# EAGLE library part D-SUB37- (library con-thomas-betts)
D-Subminiatur Connector Source: Electronioc Interconnects European Edition 1998
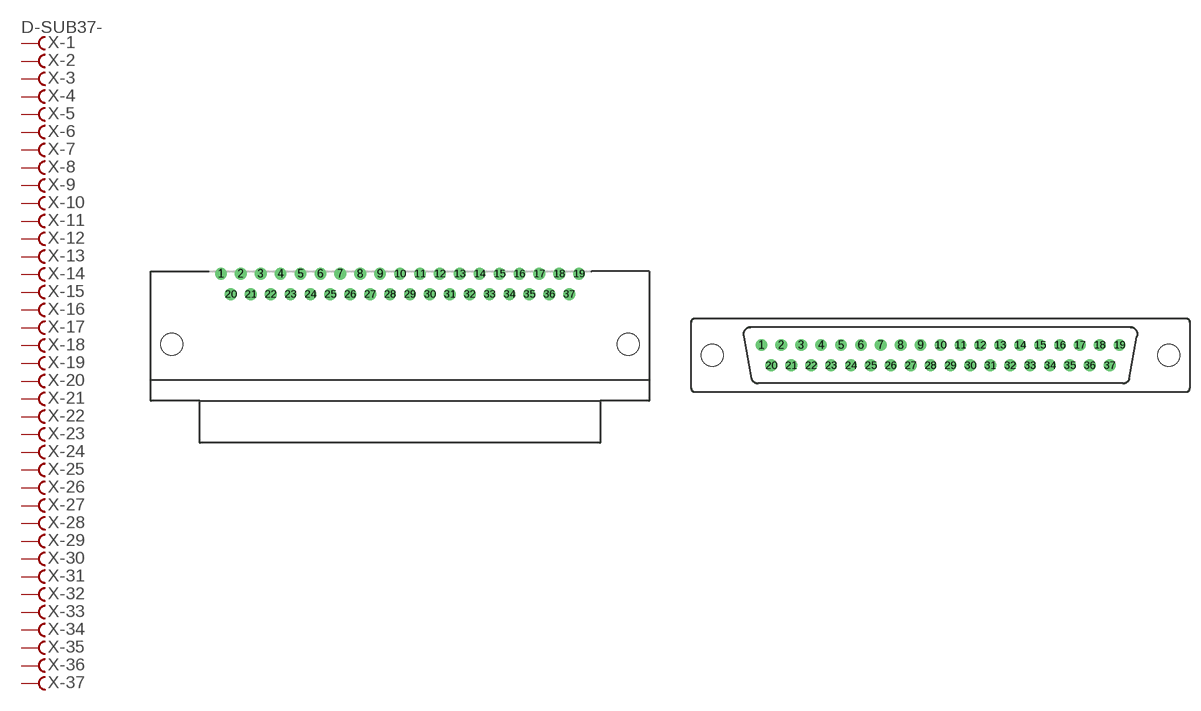
[diagram p22: symbol with the pads of H2M37RA; footprints H2M37RA, H2M37ST]

Designator prefix X; gates -1=FV -2=F -3=F -4=F -5=F -6=F -7=F -8=F -9=F -10=F -11=F -12=F -13=F -14=F -15=F -16=F -17=F -18=F -19=F -20=F -21=F -22=F -23=F -24=F -25=F -26=F -27=F -28=F -29=F -30=F -31=F -32=F -33=F -34=F -35=F -36=F -37=F

## D-SUB37-H2M37RA (OC_FARNELL: unknown; OC_NEWARK: unknown)  [H2M37RA]
1  -1:F  pas
2  -2:F  pas
3  -3:F  pas
4  -4:F  pas
5  -5:F  pas
6  -6:F  pas
7  -7:F  pas
8  -8:F  pas
9  -9:F  pas
10  -10:F  pas
11  -11:F  pas
12  -12:F  pas
13  -13:F  pas
14  -14:F  pas
15  -15:F  pas
16  -16:F  pas
17  -17:F  pas
18  -18:F  pas
19  -19:F  pas
20  -20:F  pas
21  -21:F  pas
22  -22:F  pas
23  -23:F  pas
24  -24:F  pas
25  -25:F  pas
26  -26:F  pas
27  -27:F  pas
28  -28:F  pas
29  -29:F  pas
30  -30:F  pas
31  -31:F  pas
32  -32:F  pas
33  -33:F  pas
34  -34:F  pas
35  -35:F  pas
36  -36:F  pas
37  -37:F  pas

## D-SUB37-H2M37ST (OC_FARNELL: unknown; OC_NEWARK: unknown)  [H2M37ST]
Pads as for H2M37RA

## D-SUB37-H2R37RA (OC_FARNELL: unknown; OC_NEWARK: unknown)  [H2R37RA]
Pads as for H2M37RA

## D-SUB37-H3R37ST (OC_FARNELL: unknown; OC_NEWARK: unknown)  [H2R37ST]
Pads as for H2M37RA

## D-SUB37-H3R37RA (OC_FARNELL: unknown; OC_NEWARK: unknown)  [H3R37RA]
Pads as for H2M37RA

## D-SUB37-H5M37RA (MPN: H5M37RA29CS; OC_FARNELL: unknown; OC_NEWARK: 93F8325)  [H5M37RA]
Pads as for H2M37RA

## D-SUB37-H5R37RA (OC_FARNELL: unknown; OC_NEWARK: unknown)  [H5R37RA]
Pads as for H2M37RA

## Footprint H2M37RA (pad centres in mm)
THOMAS&BETTS H2M37RA29A
drill 1.092 round: 1 -24.917,7.925; 2 -22.149,7.925; 3 -19.38,7.925; 4 -16.612,7.925; 5 -13.843,7.925; 6 -11.074,7.925; 7 -8.306,7.925; 8 -5.537,7.925; 9 -2.769,7.925; 10 0,7.925; 11 2.769,7.925; 12 5.537,7.925; 13 8.306,7.925; 14 11.074,7.925; 15 13.843,7.925; 16 16.612,7.925; 17 19.38,7.925; 18 22.149,7.925; 19 24.917,7.925; 20 -23.533,5.08; 21 -20.765,5.08; 22 -17.996,5.08; 23 -15.227,5.08; 24 -12.459,5.08; 25 -9.69,5.08; 26 -6.921,5.08; 27 -4.153,5.08; 28 -1.384,5.08; 29 1.384,5.08; 30 4.153,5.08; 31 6.921,5.08; 32 9.69,5.08; 33 12.459,5.08; 34 15.227,5.08; 35 17.996,5.08; 36 20.765,5.08; 37 23.533,5.08
hole 3.048 at -31.75,-1.905
hole 3.048 at 31.75,-1.905

## Footprint H2M37ST (pad centres in mm)
THOMAS&BETTS H2M37ST29x
drill 1.092 round: 1 -24.917,1.422; 2 -22.149,1.422; 3 -19.38,1.422; 4 -16.612,1.422; 5 -13.843,1.422; 6 -11.074,1.422; 7 -8.306,1.422; 8 -5.537,1.422; 9 -2.769,1.422; 10 0,1.422; 11 2.769,1.422; 12 5.537,1.422; 13 8.306,1.422; 14 11.074,1.422; 15 13.843,1.422; 16 16.612,1.422; 17 19.38,1.422; 18 22.149,1.422; 19 24.917,1.422; 20 -23.533,-1.422; 21 -20.765,-1.422; 22 -17.996,-1.422; 23 -15.227,-1.422; 24 -12.459,-1.422; 25 -9.69,-1.422; 26 -6.921,-1.422; 27 -4.153,-1.422; 28 -1.384,-1.422; 29 1.384,-1.422; 30 4.153,-1.422; 31 6.921,-1.422; 32 9.69,-1.422; 33 12.459,-1.422; 34 15.227,-1.422; 35 17.996,-1.422; 36 20.765,-1.422; 37 23.533,-1.422
hole 3.048 at -31.75,0
hole 3.048 at 31.75,0

## Footprint H2R37RA (pad centres in mm)
THOMAS&BETTS H2R37RA29A
drill 1.092 round: 1 24.917,7.925; 2 22.149,7.925; 3 19.38,7.925; 4 16.612,7.925; 5 13.843,7.925; 6 11.074,7.925; 7 8.306,7.925; 8 5.537,7.925; 9 2.769,7.925; 10 0,7.925; 11 -2.769,7.925; 12 -5.537,7.925; 13 -8.306,7.925; 14 -11.074,7.925; 15 -13.843,7.925; 16 -16.612,7.925; 17 -19.38,7.925; 18 -22.149,7.925; 19 -24.917,7.925; 20 23.533,5.08; 21 20.765,5.08; 22 17.996,5.08; 23 15.227,5.08; 24 12.459,5.08; 25 9.69,5.08; 26 6.921,5.08; 27 4.153,5.08; 28 1.384,5.08; 29 -1.384,5.08; 30 -4.153,5.08; 31 -6.921,5.08; 32 -9.69,5.08; 33 -12.459,5.08; 34 -15.227,5.08; 35 -17.996,5.08; 36 -20.765,5.08; 37 -23.533,5.08
hole 3.048 at -31.75,-1.905
hole 3.048 at 31.75,-1.905

## Footprint H2R37ST (pad centres in mm)
THOMAS&BETTS H2R37ST29x
drill 1.092 round: 1 24.917,1.422; 2 22.149,1.422; 3 19.38,1.422; 4 16.612,1.422; 5 13.843,1.422; 6 11.074,1.422; 7 8.306,1.422; 8 5.537,1.422; 9 2.769,1.422; 10 0,1.422; 11 -2.769,1.422; 12 -5.537,1.422; 13 -8.306,1.422; 14 -11.074,1.422; 15 -13.843,1.422; 16 -16.612,1.422; 17 -19.38,1.422; 18 -22.149,1.422; 19 -24.917,1.422; 20 23.533,-1.422; 21 20.765,-1.422; 22 17.996,-1.422; 23 15.227,-1.422; 24 12.459,-1.422; 25 9.69,-1.422; 26 6.921,-1.422; 27 4.153,-1.422; 28 1.384,-1.422; 29 -1.384,-1.422; 30 -4.153,-1.422; 31 -6.921,-1.422; 32 -9.69,-1.422; 33 -12.459,-1.422; 34 -15.227,-1.422; 35 -17.996,-1.422; 36 -20.765,-1.422; 37 -23.533,-1.422
hole 3.048 at -31.75,0
hole 3.048 at 31.75,0

## Footprint H3R37RA (pad centres in mm)
THOMAS&BETTS H3R37RA29A
drill 1.092 round: 1 24.917,1.422; 2 22.149,1.422; 3 19.38,1.422; 4 16.612,1.422; 5 13.843,1.422; 6 11.074,1.422; 7 8.306,1.422; 8 5.537,1.422; 9 2.769,1.422; 10 0,1.422; 11 -2.769,1.422; 12 -5.537,1.422; 13 -8.306,1.422; 14 -11.074,1.422; 15 -13.843,1.422; 16 -16.612,1.422; 17 -19.38,1.422; 18 -22.149,1.422; 19 -24.917,1.422; 20 23.533,-1.422; 21 20.765,-1.422; 22 17.996,-1.422; 23 15.227,-1.422; 24 12.459,-1.422; 25 9.69,-1.422; 26 6.921,-1.422; 27 4.153,-1.422; 28 1.384,-1.422; 29 -1.384,-1.422; 30 -4.153,-1.422; 31 -6.921,-1.422; 32 -9.69,-1.422; 33 -12.459,-1.422; 34 -15.227,-1.422; 35 -17.996,-1.422; 36 -20.765,-1.422; 37 -23.533,-1.422
hole 3.048 at -31.75,0
hole 3.048 at 31.75,0

## Footprint H5M37RA (pad centres in mm)
THOMAS&BETTS H5M37RA29A
drill 1.092 round: 1 -24.917,1.422; 2 -22.149,1.422; 3 -19.38,1.422; 4 -16.612,1.422; 5 -13.843,1.422; 6 -11.074,1.422; 7 -8.306,1.422; 8 -5.537,1.422; 9 -2.769,1.422; 10 0,1.422; 11 2.769,1.422; 12 5.537,1.422; 13 8.306,1.422; 14 11.074,1.422; 15 13.843,1.422; 16 16.612,1.422; 17 19.38,1.422; 18 22.149,1.422; 19 24.917,1.422; 20 -23.533,-1.422; 21 -20.765,-1.422; 22 -17.996,-1.422; 23 -15.227,-1.422; 24 -12.459,-1.422; 25 -9.69,-1.422; 26 -6.921,-1.422; 27 -4.153,-1.422; 28 -1.384,-1.422; 29 1.384,-1.422; 30 4.153,-1.422; 31 6.921,-1.422; 32 9.69,-1.422; 33 12.459,-1.422; 34 15.227,-1.422; 35 17.996,-1.422; 36 20.765,-1.422; 37 23.533,-1.422
hole 3.048 at -31.75,0
hole 3.048 at 31.75,0

## Footprint H5R37RA (pad centres in mm)
THOMAS&BETTS H5R37RA29A
drill 1.092 round: 1 24.917,1.422; 2 22.149,1.422; 3 19.38,1.422; 4 16.612,1.422; 5 13.843,1.422; 6 11.074,1.422; 7 8.306,1.422; 8 5.537,1.422; 9 2.769,1.422; 10 0,1.422; 11 -2.769,1.422; 12 -5.537,1.422; 13 -8.306,1.422; 14 -11.074,1.422; 15 -13.843,1.422; 16 -16.612,1.422; 17 -19.38,1.422; 18 -22.149,1.422; 19 -24.917,1.422; 20 23.533,-1.422; 21 20.765,-1.422; 22 17.996,-1.422; 23 15.227,-1.422; 24 12.459,-1.422; 25 9.69,-1.422; 26 6.921,-1.422; 27 4.153,-1.422; 28 1.384,-1.422; 29 -1.384,-1.422; 30 -4.153,-1.422; 31 -6.921,-1.422; 32 -9.69,-1.422; 33 -12.459,-1.422; 34 -15.227,-1.422; 35 -17.996,-1.422; 36 -20.765,-1.422; 37 -23.533,-1.422
hole 3.048 at -31.75,0
hole 3.048 at 31.75,0